# EAGLE library part SST26VF032B-104I/SM (library msut_zadaca3)
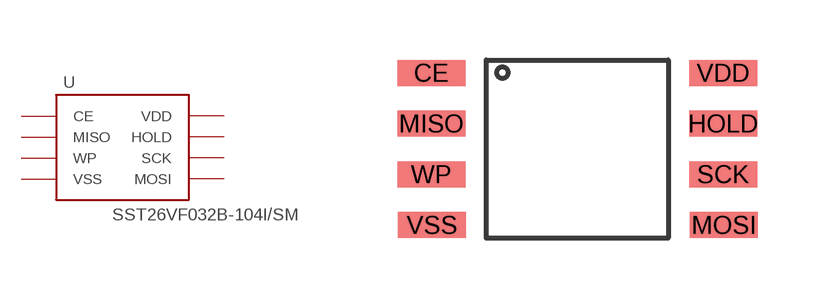
[diagram p2: symbol with the pads of 8-SOIJ; footprint 8-SOIJ]

Designator prefix U

## SST26VF032B-104I/SM  [8-SOIJ]
CE  CE
HOLD  HOLD
MISO  MISO
MOSI  MOSI
SCK  SCK
VDD  VDD
VSS  VSS
WP  WP

## Footprint 8-SOIJ (pad centres in mm)
smd 1.7 x 0.65: CE 0,1.905; HOLD 7.3,0.635; MISO 0,0.635; MOSI 7.32,-1.905; SCK 7.3,-0.635; VDD 7.3,1.905; VSS 0.02,-1.905; WP 0,-0.635